# EAGLE library part 610036243021 (library Wurth_Elektronik2)
WR-PHD 2.54mm SMT Dual Socket Header Bottom Entry, 36 Pins =>Code : Con_BTB_SHD_2.54_2_610036243021 <http://katalog.we-online.de/media/images/eican/Con_BTB_SHD_2.54_2_6100xx243021_pf2.jpg> Details see: http://katalog.we-online.de/en/em/610_0xx_243_021 Created 2014-05-30, Karrer Zheng 2014 (C) Würth Elektronik
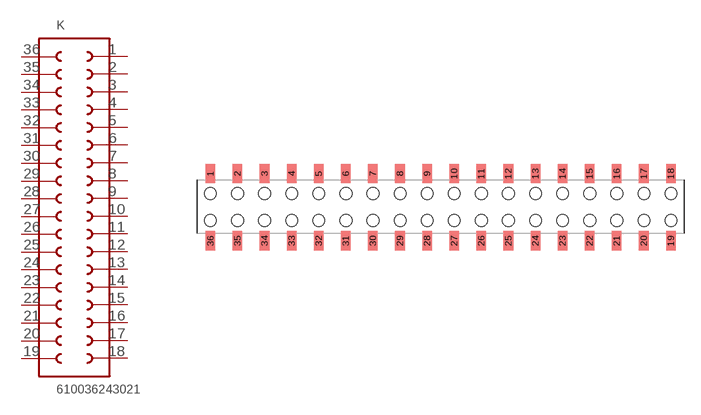
[diagram p195: symbol with the pads of 610036243021; footprint 610036243021]

Designator prefix K

## 610036243021  [610036243021]
1  1  pas
2  2  pas
3  3  pas
4  4  pas
5  5  pas
6  6  pas
7  7  pas
8  8  pas
9  9  pas
10  10  pas
11  11  pas
12  12  pas
13  13  pas
14  14  pas
15  15  pas
16  16  pas
17  17  pas
18  18  pas
19  19  pas
20  20  pas
21  21  pas
22  22  pas
23  23  pas
24  24  pas
25  25  pas
26  26  pas
27  27  pas
28  28  pas
29  29  pas
30  30  pas
31  31  pas
32  32  pas
33  33  pas
34  34  pas
35  35  pas
36  36  pas

## Footprint 610036243021 (pad centres in mm)
WR-PHD 2.54mm SMT Dual Socket Header Bottom Entry, 36 Pins
smd 0.9 x 1.8: 1 -25.4,3.15; 2 -22.87,3.14; 3 -20.33,3.14; 4 -17.79,3.14; 5 -15.25,3.14; 6 -12.71,3.14; 7 -10.17,3.14; 8 -7.63,3.14; 9 -5.09,3.14; 10 -2.55,3.14; 11 -0.01,3.14; 12 2.53,3.14; 13 5.07,3.14; 14 7.61,3.14; 15 10.15,3.14; 16 12.69,3.14; 17 15.23,3.14; 18 17.77,3.14; 19 17.77,-3.16; 20 15.23,-3.16; 21 12.69,-3.16; 22 10.15,-3.16; 23 7.61,-3.16; 24 5.07,-3.16; 25 2.53,-3.16; 26 -0.01,-3.16; 27 -2.55,-3.16; 28 -5.09,-3.16; 29 -7.63,-3.16; 30 -10.17,-3.16; 31 -12.71,-3.16; 32 -15.25,-3.16; 33 -17.79,-3.16; 34 -20.33,-3.16; 35 -22.87,-3.16; 36 -25.4,-3.17
hole 1.1 at -25.4,1.27
hole 1.1 at -22.86,1.27
hole 1.1 at -22.86,-1.27
hole 1.1 at -25.4,-1.27
hole 1.1 at -20.32,1.27
hole 1.1 at -20.32,-1.27
hole 1.1 at -17.78,1.27
hole 1.1 at -17.78,-1.27
hole 1.1 at -15.24,1.27
hole 1.1 at -15.24,-1.27
hole 1.1 at -12.7,1.27
hole 1.1 at -12.7,-1.27
hole 1.1 at -10.16,1.27
hole 1.1 at -10.16,-1.27
hole 1.1 at -7.62,1.27
hole 1.1 at -7.62,-1.27
hole 1.1 at -5.08,1.27
hole 1.1 at -5.08,-1.27
hole 1.1 at -2.54,1.27
hole 1.1 at -2.54,-1.27
hole 1.1 at 0,1.27
hole 1.1 at 0,-1.27
hole 1.1 at 2.54,1.27
hole 1.1 at 2.54,-1.27
hole 1.1 at 5.08,1.27
hole 1.1 at 5.08,-1.27
hole 1.1 at 7.62,1.27
hole 1.1 at 7.62,-1.27
hole 1.1 at 10.16,1.27
hole 1.1 at 10.16,-1.27
hole 1.1 at 12.7,1.27
hole 1.1 at 12.7,-1.27
hole 1.1 at 15.24,1.27
hole 1.1 at 15.24,-1.27
hole 1.1 at 17.78,1.27
hole 1.1 at 17.78,-1.27